# Altium schematic symbol library Mechanical Component.Schlib: 1 symbol
Pins are listed as number, name and electrical type; pins without a type are passive.

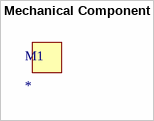
[diagram p0: symbol Mechanical Component]

## Mechanical Component
designator M1  (mechanical)